# EAGLE library part XHRA-2HPA (library Fugu_LSI)
xCORE-AUDIO Processors
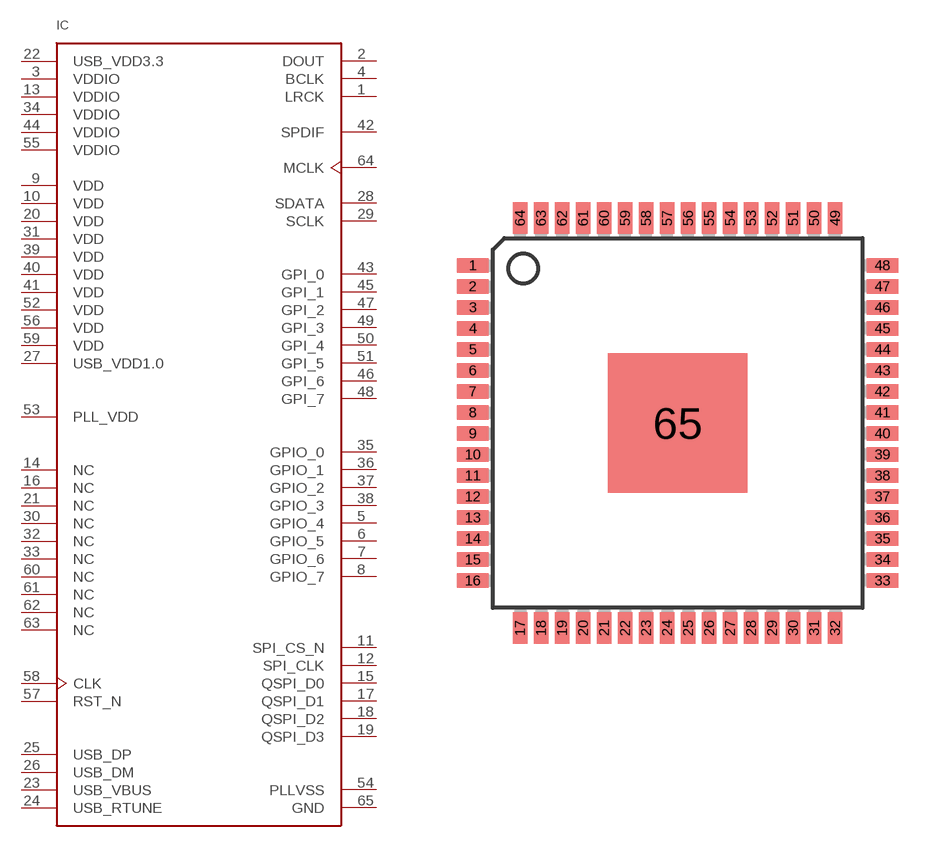
[diagram p0: symbol with the pads of TQFP64; footprint TQFP64]

Designator prefix IC

## XHRA-2HPA  [TQFP64]
1  LRCK
2  DOUT
3  VDDIO
4  BCLK
5  GPIO_4
6  GPIO_5
7  GPIO_6
8  GPIO_7
9  VDD
10  VDD
11  SPI_CS_N
12  SPI_CLK
13  VDDIO
14  NC
15  QSPI_D0
16  NC
17  QSPI_D1
18  QSPI_D2
19  QSPI_D3
20  VDD
21  NC
22  USB_VDD3.3
23  USB_VBUS
24  USB_RTUNE
25  USB_DP
26  USB_DM
27  USB_VDD1.0
28  SDATA
29  SCLK
30  NC
31  VDD
32  NC
33  NC
34  VDDIO
35  GPIO_0
36  GPIO_1
37  GPIO_2
38  GPIO_3
39  VDD
40  VDD
41  VDD
42  SPDIF
43  GPI_0
44  VDDIO
45  GPI_1
46  GPI_6
47  GPI_2
48  GPI_7
49  GPI_3
50  GPI_4
51  GPI_5
52  VDD
53  PLL_VDD
54  PLLVSS
55  VDDIO
56  VDD
57  RST_N
58  CLK
59  VDD
60  NC
61  NC
62  NC
63  NC
64  MCLK
65  GND

## Footprint TQFP64 (pad centres in mm)
Thin Plasic Quad Flat Package Updated from atml.lbr 17.01.2005 alf@cadsoft.de
smd 1.194 x 0.559: 1 -7.8,6; 2 -7.8,5.2; 3 -7.8,4.4; 4 -7.8,3.6; 5 -7.8,2.8; 6 -7.8,2; 7 -7.8,1.2; 8 -7.8,0.4; 9 -7.8,-0.4; 10 -7.8,-1.2; 11 -7.8,-2; 12 -7.8,-2.8; 13 -7.8,-3.6; 14 -7.8,-4.4; 15 -7.8,-5.2; 16 -7.8,-6; 33 7.8,-6; 34 7.8,-5.2; 35 7.8,-4.4; 36 7.8,-3.6; 37 7.8,-2.8; 38 7.8,-2; 39 7.8,-1.2; 40 7.8,-0.4; 41 7.8,0.4; 42 7.8,1.2; 43 7.8,2; 44 7.8,2.8; 45 7.8,3.6; 46 7.8,4.4; 47 7.8,5.2; 48 7.8,6
smd 0.559 x 1.194: 17 -6,-7.8; 18 -5.2,-7.8; 19 -4.4,-7.8; 20 -3.6,-7.8; 21 -2.8,-7.8; 22 -2,-7.8; 23 -1.2,-7.8; 24 -0.4,-7.8; 25 0.4,-7.8; 26 1.2,-7.8; 27 2,-7.8; 28 2.8,-7.8; 29 3.6,-7.8; 30 4.4,-7.8; 31 5.2,-7.8; 32 6,-7.8; 49 6,7.8; 50 5.2,7.8; 51 4.4,7.8; 52 3.6,7.8; 53 2.8,7.8; 54 2,7.8; 55 1.2,7.8; 56 0.4,7.8; 57 -0.4,7.8; 58 -1.2,7.8; 59 -2,7.8; 60 -2.8,7.8; 61 -3.6,7.8; 62 -4.4,7.8; 63 -5.2,7.8; 64 -6,7.8
smd 5.31 x 5.31: 65 0,0